# EAGLE library part POT_STEREO (library baoOldcolors)
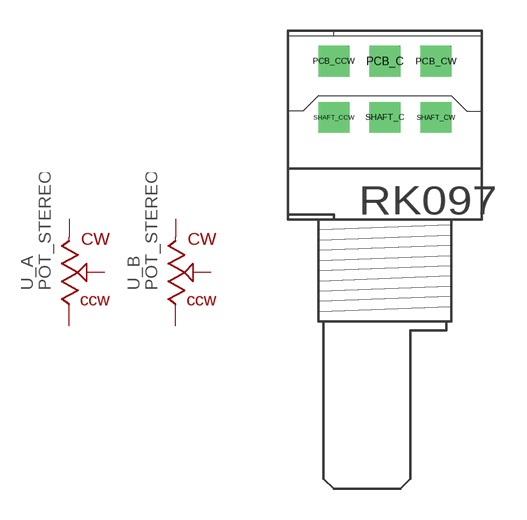
[diagram p5: symbol with the pads of POT_ALPS_RK097-STEREO; footprint POT_ALPS_RK097-STEREO]

Designator prefix -; gates _A=POT _B=POT

## POT_STEREOHORIZ  [POT_ALPS_RK097-STEREO]
PCB_C  _A:C  pas
PCB_CCW  _A:CCW  pas
PCB_CW  _A:CW  pas
SHAFT_C  _B:C  pas
SHAFT_CCW  _B:CCW  pas
SHAFT_CW  _B:CW  pas

## Footprint POT_ALPS_RK097-STEREO (pad centres in mm)
ALPS RK097 Dual Element D-Shaft
drill 1 pad 1.422 square: PCB_C 0,2.69; PCB_CCW -2.5,2.69; PCB_CW 2.5,2.69; SHAFT_C 0,-0.06; SHAFT_CCW -2.5,-0.06; SHAFT_CW 2.5,-0.06